# EAGLE library part OP284E (library microwave_radar)
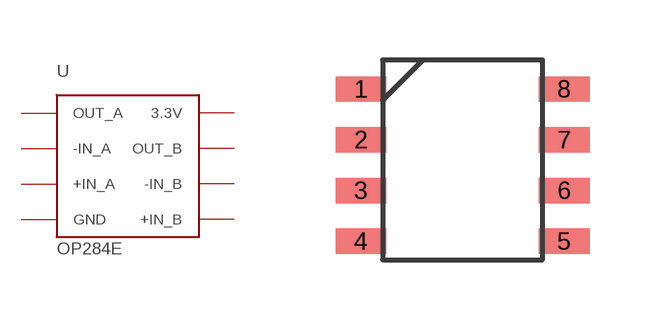
[diagram p0: symbol with the pads of SOIC_OP284E; footprint SOIC_OP284E]

Designator prefix -

## OP284E  [SOIC_OP284E]
1  OUT_A
2  -IN_A
3  +IN_A
4  GND
5  +IN_B
6  -IN_B
7  OUT_B
8  3.3V

## Footprint SOIC_OP284E (pad centres in mm)
smd 1.27 x 0.635: 1 -2.54,1.27; 2 -2.54,0; 3 -2.54,-1.27; 4 -2.54,-2.54; 5 2.54,-2.54; 6 2.54,-1.27; 7 2.54,0; 8 2.54,1.27